# Altium schematic symbol library SHT40-AD1B-R3.SchLib: 1 symbol
Pins are listed as number, name and electrical type; pins without a type are passive.

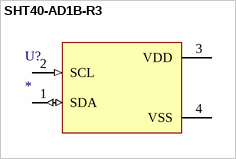
[diagram p0: symbol SHT40-AD1B-R3]

## SHT40-AD1B-R3
designator U?
Value: *
pins: 1 SDA (io), 2 SCL (in), 3 VDD (power), 4 VSS (power)